# Altium footprint library LARS_409_MK.PCBLIB: 12 footprints
Each footprint in its own frame and in the unit in brackets; x right, y up, seen from the top. Pads: shape width x height; smd on the part's side, far side on the other; paste and mask are expansions set on the pad; w line width, h text height; cw(c..) or ccw(c..) is an arc to the next point about the centre after c.
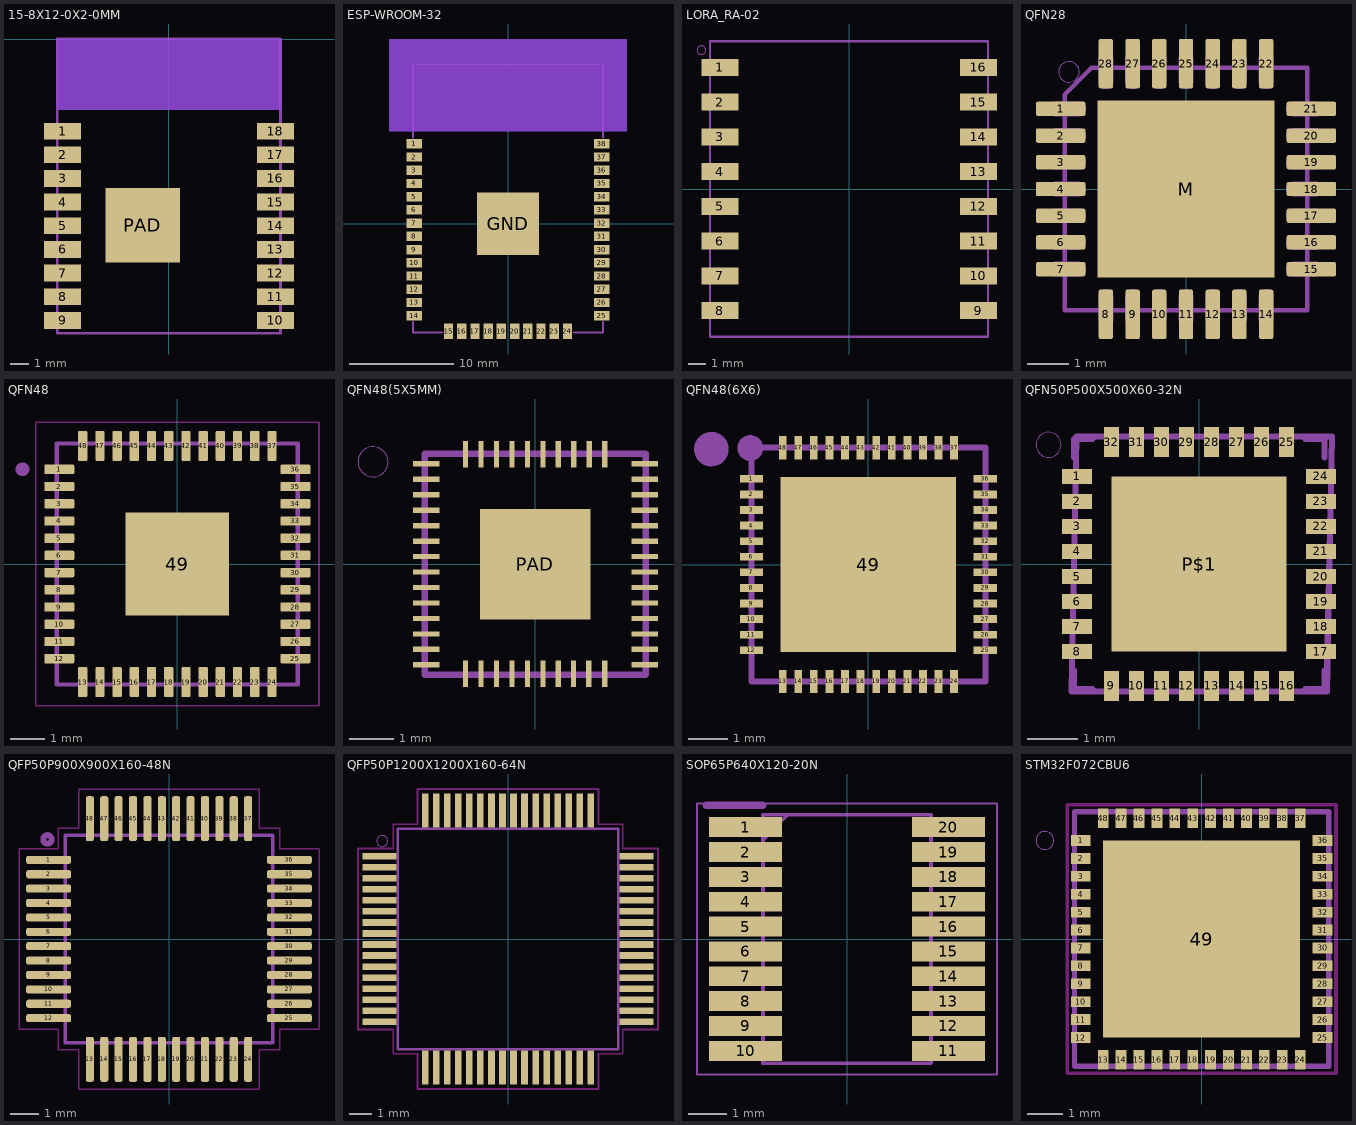
[diagram p0: the footprints below, top view; thin cyan lines are the x and y axes]

## 15-8X12-0X2-0MM [mm]
pads (19):
  rect 2x0.9 smd: 1(-5.71,-4.95) 2(-5.71,-6.22) 3(-5.71,-7.49) 4(-5.71,-8.76) 5(-5.71,-10.03) 6(-5.71,-11.3) 7(-5.71,-12.57) 8(-5.71,-13.84) 9(-5.71,-15.11) 10(5.72,-15.11) 11(5.72,-13.84) 12(5.72,-12.57) 13(5.72,-11.3) 14(5.72,-10.03) 15(5.72,-8.76) 16(5.72,-7.49) 17(5.72,-6.22) 18(5.72,-4.95)
  rect 4x4 smd: PAD(-1.4,-10)
Top keep-out:
  region: -6,-3.8 -6,0 6,0 6,-3.8
Bottom keep-out:
  region: -6,-3.8 -6,0 6,0 6,-3.8
tPlace:
  lines w0.152: -6,-15.8 -6,0 6,0 6,-15.8 -6,-15.8

## ESP-WROOM-32 [mm]
pads (39):
  rect 1.5x0.9 smd: 1(-9,7.7) 2(-9,6.43) 3(-9,5.16) 4(-9,3.89) 5(-9,2.62) 6(-9,1.35) 7(-9,0.08) 8(-9,-1.19) 9(-9,-2.46) 10(-9,-3.73) 11(-9,-5) 12(-9,-6.27) 13(-9,-7.54) 14(-9,-8.81) 25(9,-8.81) 26(9,-7.54) 27(9,-6.27) 28(9,-5) 29(9,-3.73) 30(9,-2.46) 31(9,-1.19) 32(9,0.08) 33(9,1.35) 34(9,2.62) 35(9,3.89) 36(9,5.16) 37(9,6.43) 38(9,7.7)
  rect 0.9x1.5 smd: 15(-5.715,-10.3) 16(-4.445,-10.3) 17(-3.175,-10.3) 18(-1.905,-10.3) 19(-0.635,-10.3) 20(0.635,-10.3) 21(1.905,-10.3) 22(3.175,-10.3) 23(4.445,-10.3) 24(5.715,-10.3)
  rect 6x6 smd: GND(0,0)
Top keep-out:
  region: -11.417,8.903 11.417,8.903 11.417,17.767 -11.417,17.767
  region: -11.417,8.903 11.417,8.903 11.417,17.767 -11.417,17.767
  region: -11.417,8.903 11.417,8.903 11.417,17.767 -11.417,17.767
Bottom keep-out:
  region: -11.417,8.903 11.417,8.903 11.417,17.767 -11.417,17.767
  region: -11.417,8.903 11.417,8.903 11.417,17.767 -11.417,17.767
tPlace:
  lines w0.203: -9.127,-9.4 -9.127,-10.427 -6.35,-10.427 ; -9.127,8.311 -9.127,15.327 9.127,15.327 9.127,8.311 ; 6.35,-10.427 9.127,-10.427 9.127,-9.4

## LORA_RA-02 [mm]
pads (16):
  rect 2.142x0.972 smd: 1(-7.435,7) 2(-7.435,5) 3(-7.435,3) 4(-7.435,1) 5(-7.435,-1) 6(-7.435,-3) 7(-7.435,-5) 8(-7.435,-7) 9(7.435,-7) 10(7.435,-5) 11(7.435,-3) 12(7.435,-1) 13(7.435,1) 14(7.435,3) 15(7.435,5) 16(7.435,7)
tDocu:
  lines w0.12: -8,-8.5 8,-8.5 8,8.5 -8,8.5 -8,-8.5
tPlace:
  circle w0: c-8.504,7.99 r0.25
  lines w0.12: -8,-7.74 -8,-8.5 8,-8.5 8,-7.74 ; -8,7.74 -8,8.5 8,8.5 8,7.74

## QFN28 [mm]
pads (29):
  rrect25% 1.2x0.35 smd paste+0: 1(-3.05,1.95) 2(-3.05,1.3) 3(-3.05,0.65) 4(-3.05,0) 5(-3.05,-0.65) 6(-3.05,-1.3) 7(-3.05,-1.95) 15(3.05,-1.95) 16(3.05,-1.3) 17(3.05,-0.65) 18(3.05,0) 19(3.05,0.65) 20(3.05,1.3) 21(3.05,1.95)
  rrect25% 0.35x1.2 smd paste+0: 8(-1.95,-3.05) 9(-1.3,-3.05) 10(-0.65,-3.05) 11(0,-3.05) 12(0.65,-3.05) 13(1.3,-3.05) 14(1.95,-3.05) 22(1.95,3.05) 23(1.3,3.05) 24(0.65,3.05) 25(0,3.05) 26(-0.65,3.05) 27(-1.3,3.05) 28(-1.95,3.05)
  rect 4.3x4.3 smd paste+0: M(0,0)
tDocu:
  region: -3.2,1.775 -3.2,2.125 -2.6,2.125 -2.6,1.775
  region: -3.2,1.125 -3.2,1.475 -2.6,1.475 -2.6,1.125
  region: -3.2,0.475 -3.2,0.825 -2.6,0.825 -2.6,0.475
  region: -3.2,-0.175 -3.2,0.175 -2.6,0.175 -2.6,-0.175
  region: -3.2,-0.825 -3.2,-0.475 -2.6,-0.475 -2.6,-0.825
  region: -3.2,-1.475 -3.2,-1.125 -2.6,-1.125 -2.6,-1.475
  region: -3.2,-2.125 -3.2,-1.775 -2.6,-1.775 -2.6,-2.125
  region: -1.775,-3.2 -2.125,-3.2 -2.125,-2.6 -1.775,-2.6
  region: -1.125,-3.2 -1.475,-3.2 -1.475,-2.6 -1.125,-2.6
  region: -0.475,-3.2 -0.825,-3.2 -0.825,-2.6 -0.475,-2.6
  region: 0.175,-3.2 -0.175,-3.2 -0.175,-2.6 0.175,-2.6
  region: 0.825,-3.2 0.475,-3.2 0.475,-2.6 0.825,-2.6
  region: 1.475,-3.2 1.125,-3.2 1.125,-2.6 1.475,-2.6
  region: 2.125,-3.2 1.775,-3.2 1.775,-2.6 2.125,-2.6
  region: 3.2,-1.775 3.2,-2.125 2.6,-2.125 2.6,-1.775
  region: 3.2,-1.125 3.2,-1.475 2.6,-1.475 2.6,-1.125
  region: 3.2,-0.475 3.2,-0.825 2.6,-0.825 2.6,-0.475
  region: 3.2,0.175 3.2,-0.175 2.6,-0.175 2.6,0.175
  region: 3.2,0.825 3.2,0.475 2.6,0.475 2.6,0.825
  region: 3.2,1.475 3.2,1.125 2.6,1.125 2.6,1.475
  region: 3.2,2.125 3.2,1.775 2.6,1.775 2.6,2.125
  region: 1.775,3.2 2.125,3.2 2.125,2.6 1.775,2.6
  region: 1.125,3.2 1.475,3.2 1.475,2.6 1.125,2.6
  region: 0.475,3.2 0.825,3.2 0.825,2.6 0.475,2.6
  region: -0.175,3.2 0.175,3.2 0.175,2.6 -0.175,2.6
  region: -0.825,3.2 -0.475,3.2 -0.475,2.6 -0.825,2.6
  region: -1.475,3.2 -1.125,3.2 -1.125,2.6 -1.475,2.6
  region: -2.125,3.2 -1.775,3.2 -1.775,2.6 -2.125,2.6
  lines w0.102: -2.95,-2.3 -2.95,2.3 -2.3,2.95 2.25,2.95 ; -2.3,-2.95 2.3,-2.95 ; 2.95,-2.3 2.95,2.25
  lines w0.18: -2.605,-2.038 ccw(c-2.605,-1.95) -2.605,-1.863 ; -2.605,-1.388 ccw(c-2.605,-1.3) -2.605,-1.213 ; -2.605,-0.738 ccw(c-2.605,-0.65) -2.605,-0.563 ; -2.605,-0.087 ccw(c-2.605,0) -2.605,0.087 ; -2.605,0.563 ccw(c-2.605,0.65) -2.605,0.738 ; -2.605,1.213 ccw(c-2.605,1.3) -2.605,1.388 ; -2.605,1.863 ccw(c-2.605,1.95) -2.605,2.038 ; -2.038,-2.605 cw(c-1.95,-2.605) -1.863,-2.605 ; -2.038,2.605 ccw(c-1.95,2.605) -1.863,2.605 ; -1.388,-2.605 cw(c-1.3,-2.605) -1.213,-2.605 ; -1.388,2.605 ccw(c-1.3,2.605) -1.213,2.605 ; -0.738,-2.605 cw(c-0.65,-2.605) -0.563,-2.605 ; -0.738,2.605 ccw(c-0.65,2.605) -0.563,2.605 ; -0.087,-2.605 cw(c0,-2.605) 0.087,-2.605 ; -0.087,2.605 ccw(c0,2.605) 0.087,2.605 ; 0.563,-2.605 cw(c0.65,-2.605) 0.738,-2.605 ; 0.563,2.605 ccw(c0.65,2.605) 0.738,2.605 ; 1.213,-2.605 cw(c1.3,-2.605) 1.388,-2.605 ; 1.213,2.605 ccw(c1.3,2.605) 1.388,2.605 ; 1.863,-2.605 cw(c1.95,-2.605) 2.038,-2.605 ; 1.863,2.605 ccw(c1.95,2.605) 2.038,2.605 ; 2.605,-2.038 cw(c2.605,-1.95) 2.605,-1.863 ; 2.605,-1.388 cw(c2.605,-1.3) 2.605,-1.213 ; 2.605,-0.738 cw(c2.605,-0.65) 2.605,-0.563 ; 2.605,-0.087 cw(c2.605,0) 2.605,0.087 ; 2.605,0.563 cw(c2.605,0.65) 2.605,0.738 ; 2.605,1.213 cw(c2.605,1.3) 2.605,1.388 ; 2.605,1.863 cw(c2.605,1.95) 2.605,2.038
tPlace:
  circle w0: c-2.85,2.85 r0.25
  lines w0.1: -2.95,-2.3 -2.95,-2.95 -2.3,-2.95 ; 2.25,2.95 2.95,2.95 2.95,2.25 ; 2.3,-2.95 2.95,-2.95 2.95,-2.3

## QFN48 [mm]
pads (49):
  rrect25% 0.87x0.27 smd: 1(-3.43,2.75) 2(-3.43,2.25) 3(-3.43,1.75) 4(-3.43,1.25) 5(-3.43,0.75) 6(-3.43,0.25) 7(-3.43,-0.25) 8(-3.43,-0.75) 9(-3.43,-1.25) 10(-3.43,-1.75) 11(-3.43,-2.25) 12(-3.43,-2.75) 25(3.43,-2.75) 26(3.43,-2.25) 27(3.43,-1.75) 28(3.43,-1.25) 29(3.43,-0.75) 30(3.43,-0.25) 31(3.43,0.25) 32(3.43,0.75) 33(3.43,1.25) 34(3.43,1.75) 35(3.43,2.25) 36(3.43,2.75)
  rrect25% 0.27x0.87 smd: 13(-2.75,-3.43) 14(-2.25,-3.43) 15(-1.75,-3.43) 16(-1.25,-3.43) 17(-0.75,-3.43) 18(-0.25,-3.43) 19(0.25,-3.43) 20(0.75,-3.43) 21(1.25,-3.43) 22(1.75,-3.43) 23(2.25,-3.43) 24(2.75,-3.43) 37(2.75,3.43) 38(2.25,3.43) 39(1.75,3.43) 40(1.25,3.43) 41(0.75,3.43) 42(0.25,3.43) 43(-0.25,3.43) 44(-0.75,3.43) 45(-1.25,3.43) 46(-1.75,3.43) 47(-2.25,3.43) 48(-2.75,3.43)
  rect 3x3 smd paste+0: 49(0,0)
Top keep-out:
  lines w0.05: -4.115,-4.115 4.115,-4.115 4.115,4.115 -4.115,4.115 -4.115,-4.115
tDocu:
  circle w0.2: c-4.5,2.75 r0.1
  lines w0.127: -3.5,-3.5 3.5,-3.5 3.5,3.5 -3.5,3.5 -3.5,-3.5
tPlace:
  circle w0.2: c-4.5,2.75 r0.1
  lines w0.127: -3.5,-3.205 -3.5,-3.5 -3.205,-3.5 ; -3.5,3.205 -3.5,3.5 -3.205,3.5 ; 3.205,-3.5 3.5,-3.5 3.5,-3.205 ; 3.205,3.5 3.5,3.5 3.5,3.205

## QFN48(5X5MM) [mm]
pads (49):
  rect 0.6x0.12 smd: 1(-2.47,2.275) 2(-2.47,1.925) 3(-2.47,1.575) 4(-2.47,1.225) 5(-2.47,0.875) 6(-2.47,0.525) 7(-2.47,0.175) 8(-2.47,-0.175) 9(-2.47,-0.525) 10(-2.47,-0.875) 11(-2.47,-1.225) 12(-2.47,-1.575) 13(-2.47,-1.925) 14(-2.47,-2.275) 25(2.48,-2.275) 26(2.48,-1.925) 27(2.48,-1.575) 28(2.48,-1.225) 29(2.48,-0.875) 30(2.48,-0.525) 31(2.48,-0.175) 32(2.48,0.175) 33(2.48,0.525) 34(2.48,0.875) 35(2.48,1.225) 36(2.48,1.575) 37(2.48,1.925) 38(2.48,2.275)
  rect 0.12x0.6 smd: 15(-1.575,-2.48) 16(-1.225,-2.48) 17(-0.875,-2.48) 18(-0.525,-2.48) 19(-0.175,-2.48) 20(0.175,-2.48) 21(0.525,-2.48) 22(0.865,-2.48) 23(1.215,-2.48) 24(1.575,-2.48) 39(1.575,2.495) 40(1.225,2.495) 41(0.875,2.495) 42(0.525,2.495) 43(0.175,2.495) 44(-0.175,2.495) 45(-0.525,2.495) 46(-0.875,2.495) 47(-1.225,2.495) 48(-1.575,2.495)
  rect 2.5x2.5 smd: PAD(0,0)
tPlace:
  circle w0: c-3.67,2.32 r0.341
  lines w0.152: -2.5,-2.5 -2.5,2.5 2.5,2.5 2.5,-2.5 -2.5,-2.5
3D body "User Library-User Library-QFN-48(5x5).step": height 0.55, standoff -0.02, extent -2.51,-2.51 2.51,2.51

## QFN48(6X6) [mm]
pads (49):
  rect 0.6x0.2 smd: 1(-3,2.2) 2(-3,1.8) 3(-3,1.4) 4(-3,1) 5(-3,0.6) 6(-3,0.2) 7(-3,-0.2) 8(-3,-0.6) 9(-3,-1) 10(-3,-1.4) 11(-3,-1.8) 12(-3,-2.2) 25(3,-2.2) 26(3,-1.8) 27(3,-1.4) 28(3,-1) 29(3,-0.6) 30(3,-0.2) 31(3,0.2) 32(3,0.6) 33(3,1) 34(3,1.4) 35(3,1.8) 36(3,2.2)
  rect 0.2x0.6 smd: 13(-2.2,-3) 14(-1.8,-3) 15(-1.4,-3) 16(-1,-3) 17(-0.6,-3) 18(-0.2,-3) 19(0.2,-3) 20(0.6,-3) 21(1,-3) 22(1.4,-3) 23(1.8,-3) 24(2.2,-3) 37(2.2,3) 38(1.8,3) 39(1.4,3) 40(1,3) 41(0.6,3) 42(0.2,3) 43(-0.2,3) 44(-0.6,3) 45(-1,3) 46(-1.4,3) 47(-1.8,3) 48(-2.2,3)
  rect 4.5x4.5 smd: 49(0,0)
tPlace:
  circle w0.152: c-4.02,2.96 r0.219
  circle w0.152: c-4.04,2.96 r0.094
  circle w0.152: c-4.01,2.96 r0.041
  circle w0.152: c-4.03,2.96 r0.305
  circle w0.152: c-4.03,2.96 r0.368
  circle w0.152: c-3.02,2.99 r0.17
  circle w0.152: c-3.03,2.99 r0.255
  circle w0.152: c-3.03,2.99 r0.028
  lines w0.152: -3,-3 3,-3 3,3 -3,3 -3,-3

## QFN50P500X500X60-32N [mm]
pads (33):
  rect 0.6x0.3 smd: 1(-2.435,1.75) 2(-2.435,1.25) 3(-2.435,0.75) 4(-2.435,0.25) 5(-2.435,-0.25) 6(-2.435,-0.75) 7(-2.435,-1.25) 8(-2.435,-1.75) 17(2.435,-1.75) 18(2.435,-1.25) 19(2.435,-0.75) 20(2.435,-0.25) 21(2.435,0.25) 22(2.435,0.75) 23(2.435,1.25) 24(2.435,1.75)
  rect 0.3x0.6 smd: 9(-1.75,-2.435) 10(-1.25,-2.435) 11(-0.75,-2.435) 12(-0.25,-2.435) 13(0.25,-2.435) 14(0.75,-2.435) 15(1.25,-2.435) 16(1.75,-2.435) 25(1.75,2.435) 26(1.25,2.435) 27(0.75,2.435) 28(0.25,2.435) 29(-0.25,2.435) 30(-0.75,2.435) 31(-1.25,2.435) 32(-1.75,2.435)
  rect 3.5x3.5 smd: P$1(0,0)
tDocu:
  lines w0.12: -2.55,-2.55 2.55,-2.55 2.65,2.55 -2.45,2.55 -2.55,-2.55
tPlace:
  circle w0: c-3.004,2.379 r0.25
  lines w0.12: -2.5,-2.129 -2.5,-2.5 -2.129,-2.5 ; -2.5,2.129 -2.5,2.5 -2.129,2.5 ; 2.129,-2.5 2.5,-2.5 2.5,-2.129 ; 2.129,2.5 2.5,2.5 2.5,2.129

## QFP50P900X900X160-48N [mm]
pads (48):
  rrect50% 1.56x0.28 smd: 1(-4.18,2.75) 2(-4.18,2.25) 3(-4.18,1.75) 4(-4.18,1.25) 5(-4.18,0.75) 6(-4.18,0.25) 7(-4.18,-0.25) 8(-4.18,-0.75) 9(-4.18,-1.25) 10(-4.18,-1.75) 11(-4.18,-2.25) 12(-4.18,-2.75) 25(4.18,-2.75) 26(4.18,-2.25) 27(4.18,-1.75) 28(4.18,-1.25) 29(4.18,-0.75) 30(4.18,-0.25) 31(4.18,0.25) 32(4.18,0.75) 33(4.18,1.25) 34(4.18,1.75) 35(4.18,2.25) 36(4.18,2.75)
  rrect50% 0.28x1.56 smd: 13(-2.75,-4.18) 14(-2.25,-4.18) 15(-1.75,-4.18) 16(-1.25,-4.18) 17(-0.75,-4.18) 18(-0.25,-4.18) 19(0.25,-4.18) 20(0.75,-4.18) 21(1.25,-4.18) 22(1.75,-4.18) 23(2.25,-4.18) 24(2.75,-4.18) 37(2.75,4.18) 38(2.25,4.18) 39(1.75,4.18) 40(1.25,4.18) 41(0.75,4.18) 42(0.25,4.18) 43(-0.25,4.18) 44(-0.75,4.18) 45(-1.25,4.18) 46(-1.75,4.18) 47(-2.25,4.18) 48(-2.75,4.18)
Top keep-out:
  lines w0.05: -5.21,-3.14 -3.85,-3.14 -3.85,-3.85 -3.14,-3.85 -3.14,-5.21 3.14,-5.21 3.14,-3.85 3.85,-3.85 3.85,-3.14 5.21,-3.14 5.21,3.14 3.85,3.14 3.85,3.85 3.14,3.85 3.14,5.21 -3.14,5.21 -3.14,3.85 -3.85,3.85 -3.85,3.14 -5.21,3.14 -5.21,-3.14
tDocu:
  circle w0.2: c-4.222,3.458 r0.15
  lines w0.127: -3.6,-3.6 3.6,-3.6 3.6,3.6 -3.6,3.6 -3.6,-3.6
tPlace:
  circle w0.2: c-4.222,3.458 r0.15
  lines w0.127: -3.6,-3.21 -3.6,-3.6 -3.21,-3.6 ; -3.6,3.21 -3.6,3.6 -3.21,3.6 ; 3.21,-3.6 3.6,-3.6 3.6,-3.21 ; 3.21,3.6 3.6,3.6 3.6,3.21
3D body "User Library-STM32F103C8T6.step": height 1.4, standoff -0.15, extent -4.5,-4.5 4.5,4.5

## QFP50P1200X1200X160-64N [mm]
pads (64):
  rect 1.55x0.3 smd: 1(-5.827,3.75) 2(-5.827,3.25) 3(-5.827,2.75) 4(-5.827,2.25) 5(-5.827,1.75) 6(-5.827,1.25) 7(-5.827,0.75) 8(-5.827,0.25) 9(-5.827,-0.25) 10(-5.827,-0.75) 11(-5.827,-1.25) 12(-5.827,-1.75) 13(-5.827,-2.25) 14(-5.827,-2.75) 15(-5.827,-3.25) 16(-5.827,-3.75) 33(5.827,-3.75) 34(5.827,-3.25) 35(5.827,-2.75) 36(5.827,-2.25) 37(5.827,-1.75) 38(5.827,-1.25) 39(5.827,-0.75) 40(5.827,-0.25) 41(5.827,0.25) 42(5.827,0.75) 43(5.827,1.25) 44(5.827,1.75) 45(5.827,2.25) 46(5.827,2.75) 47(5.827,3.25) 48(5.827,3.75)
  rect 0.3x1.55 smd: 17(-3.75,-5.827) 18(-3.25,-5.827) 19(-2.75,-5.827) 20(-2.25,-5.827) 21(-1.75,-5.827) 22(-1.25,-5.827) 23(-0.75,-5.827) 24(-0.25,-5.827) 25(0.25,-5.827) 26(0.75,-5.827) 27(1.25,-5.827) 28(1.75,-5.827) 29(2.25,-5.827) 30(2.75,-5.827) 31(3.25,-5.827) 32(3.75,-5.827) 49(3.75,5.827) 50(3.25,5.827) 51(2.75,5.827) 52(2.25,5.827) 53(1.75,5.827) 54(1.25,5.827) 55(0.75,5.827) 56(0.25,5.827) 57(-0.25,5.827) 58(-0.75,5.827) 59(-1.25,5.827) 60(-1.75,5.827) 61(-2.25,5.827) 62(-2.75,5.827) 63(-3.25,5.827) 64(-3.75,5.827)
Top keep-out:
  lines w0.076: -6.8,-4.1 -5.2,-4.1 -5.2,-5.2 -4.1,-5.2 -4.1,-6.8 4.1,-6.8 4.1,-5.2 5.2,-5.2 5.2,-4.1 6.8,-4.1 6.8,4.1 5.2,4.1 5.2,5.2 4.1,5.2 4.1,6.8 -4.1,6.8 -4.1,5.2 -5.2,5.2 -5.2,4.1 -6.8,4.1 -6.8,-4.1
tDocu:
  lines w0.12: -5,-5 -5,5 5,5 5,-5 -5,-5
tPlace:
  circle w0: c-5.703,4.44 r0.25
  lines w0.12: -5,-4.19 -5,-5 -4.19,-5 ; -5,4.19 -5,5 -4.19,5 ; 4.19,-5 5,-5 5,-4.19 ; 4.19,5 5,5 5,4.19

## SOP65P640X120-20N [mm]
pads (20):
  rect 1.901x0.522 smd: 1(-2.655,2.925) 2(-2.655,2.275) 3(-2.655,1.625) 4(-2.655,0.975) 5(-2.655,0.325) 6(-2.655,-0.325) 7(-2.655,-0.975) 8(-2.655,-1.625) 9(-2.655,-2.275) 10(-2.655,-2.925) 11(2.655,-2.925) 12(2.655,-2.275) 13(2.655,-1.625) 14(2.655,-0.975) 15(2.655,-0.325) 16(2.655,0.325) 17(2.655,0.975) 18(2.655,1.625) 19(2.655,2.275) 20(2.655,2.925)
tDocu:
  lines w0.05: -3.925,-3.55 3.925,-3.55 3.925,3.55 -3.925,3.55 -3.925,-3.55
  lines w0.1: -2.2,2.6 -1.55,3.25 ; -2.2,-3.25 2.2,-3.25 2.2,3.25 -2.2,3.25 -2.2,-3.25
tPlace:
  lines w0.2: -3.675,3.5 -2.2,3.5

## STM32F072CBU6 [mm]
pads (49):
  rect 0.55x0.3 smd: 1(-3.375,2.75) 2(-3.375,2.25) 3(-3.375,1.75) 4(-3.375,1.25) 5(-3.375,0.75) 6(-3.375,0.25) 7(-3.375,-0.25) 8(-3.375,-0.75) 9(-3.375,-1.25) 10(-3.375,-1.75) 11(-3.375,-2.25) 12(-3.375,-2.75) 25(3.375,-2.75) 26(3.375,-2.25) 27(3.375,-1.75) 28(3.375,-1.25) 29(3.375,-0.75) 30(3.375,-0.25) 31(3.375,0.25) 32(3.375,0.75) 33(3.375,1.25) 34(3.375,1.75) 35(3.375,2.25) 36(3.375,2.75)
  rect 0.3x0.55 smd: 13(-2.75,-3.375) 14(-2.25,-3.375) 15(-1.75,-3.375) 16(-1.25,-3.375) 17(-0.75,-3.375) 18(-0.25,-3.375) 19(0.25,-3.375) 20(0.75,-3.375) 21(1.25,-3.375) 22(1.75,-3.375) 23(2.25,-3.375) 24(2.75,-3.375) 37(2.75,3.375) 38(2.25,3.375) 39(1.75,3.375) 40(1.25,3.375) 41(0.75,3.375) 42(0.25,3.375) 43(-0.25,3.375) 44(-0.75,3.375) 45(-1.25,3.375) 46(-1.75,3.375) 47(-2.25,3.375) 48(-2.75,3.375)
  rect 5.5x5.5 smd: 49(0,0)
Top keep-out:
  lines w0.1: -3.75,-3.75 -3.75,3.75 3.75,3.75 3.75,-3.75 -3.75,-3.75
tDocu:
  lines w0.15: -3.55,-3.55 -3.55,3.55 3.55,3.55 3.55,-3.55 -3.55,-3.55
tPlace:
  circle w0: c-4.375,2.75 r0.25
  lines w0.15: -3.55,-3.275 -3.55,-3.55 -3.275,-3.55 ; -3.55,3.275 -3.55,3.55 -3.275,3.55 ; 3.275,-3.55 3.55,-3.55 3.55,-3.275 ; 3.275,3.55 3.55,3.55 3.55,3.275